# EAGLE library part CAT16-*8 (library HyTechDevices)
Bourns CAT16 series 8x 1% or 5% resistor array size 2506 Datasheet <https://www.bourns.com/docs/Product-Datasheets/CATCAY.pdf> Options: CAT16-F8: 1% tolerance CAT16-J8: 5% tolerance Alternative: CTS Resistor Products 742C163 series Datasheet <https://www.ctscorp.com/wp-content/uploads/74x.pdf>
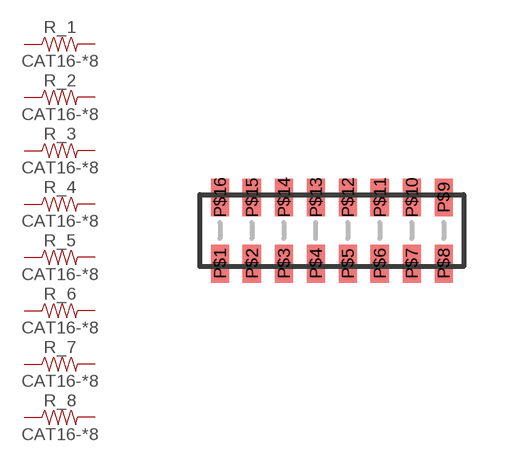
[diagram p119: symbol with the pads of CAT16-*8; footprint CAT16-*8]

Designator prefix R; gates _1=RESISTOR-1 _2=RESISTOR-1 _3=RESISTOR-1 _4=RESISTOR-1 _5=RESISTOR-1 _6=RESISTOR-1 _7=RESISTOR-1 _8=RESISTOR-1

## CAT16-J8_5%  [CAT16-*8]
P$1  _1:1  pas
P$2  _2:1  pas
P$3  _3:1  pas
P$4  _4:1  pas
P$5  _5:1  pas
P$6  _6:1  pas
P$7  _7:1  pas
P$8  _8:1  pas
P$9  _8:2  pas
P$10  _7:2  pas
P$11  _6:2  pas
P$12  _5:2  pas
P$13  _4:2  pas
P$14  _3:2  pas
P$15  _2:2  pas
P$16  _1:2  pas

## CAT16-F8_1%  [CAT16-*8]
Pads as for CAT16-*8

## Footprint CAT16-*8 (pad centres in mm)
smd 0.45 x 0.95: P$1 -2.8,-0.825; P$2 -2,-0.825; P$3 -1.2,-0.825; P$4 -0.4,-0.825; P$5 0.4,-0.825; P$6 1.2,-0.825; P$7 2,-0.825; P$8 2.8,-0.825; P$9 2.8,0.825; P$10 2,0.825; P$11 1.2,0.825; P$12 0.4,0.825; P$13 -0.4,0.825; P$14 -1.2,0.825; P$15 -2,0.825; P$16 -2.8,0.825